# Altium schematic symbol library library.SchLib: 4 symbols
Pins are listed as number, name and electrical type; pins without a type are passive.

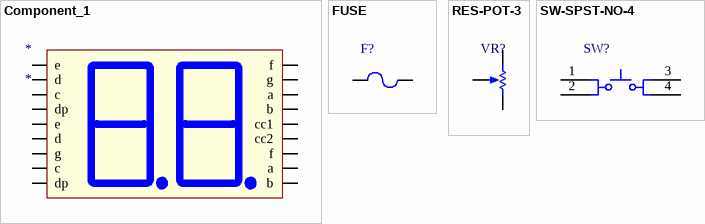
[diagram p0: symbols Component_1 to SW-SPST-NO-4]

## Component_1
designator *
footprint 7seg_LCD
pins: 1 e, 2 d, 3 c, 4 dp, 5 e, 6 d, 7 g, 8 c, 9 dp, 10 b, 11 a, 12 f, 13 cc2, 14 cc1, 15 b, 16 a, 17 g, 18 f

## FUSE
designator F?
footprint fuse - duplicate (fuse, Body 3.2x2.5mm, IPC Medium Density)
pins: 1, 2

## RES-POT-3
designator VR?
footprint RES-POT-3
pins: 1 CCW, 2 S, 3 CW

## SW-SPST-NO-4
designator SW?
footprint SW-SPST-NO-4
pins: 1, 2, 3, 4